# Altium footprint library DNH.PcbLib: 1 footprints
Each footprint in its own frame and in the unit in brackets; x right, y up, seen from the top. Pads: shape width x height; smd on the part's side, far side on the other; paste and mask are expansions set on the pad; w line width, h text height; cw(c..) or ccw(c..) is an arc to the next point about the centre after c.
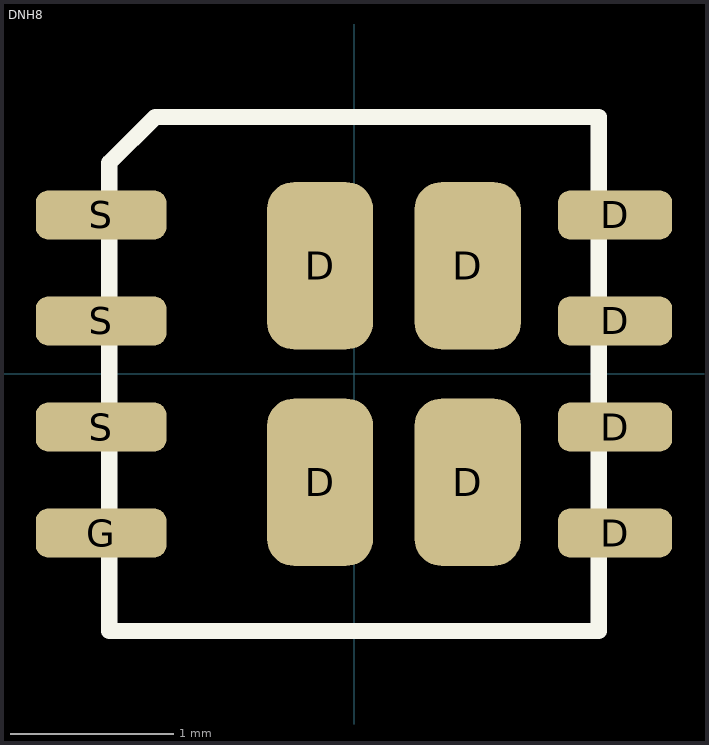
[diagram p0: the footprint, top view; thin cyan lines are the x and y axes]

## DNH8 [mm]
pads (12):
  rrect50% 0.65x1.025 smd: D(-0.208,-0.663) D(-0.208,0.663) D(0.697,-0.663) D(0.697,0.663)
  rrect50% 0.7x0.3 smd: D(1.6,-0.975) D(1.6,-0.325) D(1.6,0.325) D(1.6,0.975)
  rrect50% 0.8x0.3 smd: G(-1.55,-0.975) S(-1.55,-0.325) S(-1.55,0.325) S(-1.55,0.975)
Top Overlay:
  lines w0.1: -1.5,-1.575 -1.5,1.294 -1.219,1.575 1.5,1.575 1.5,-1.575 -1.5,-1.575
3D body "User Library-8-VSONP3x3.STEP": height 0.9, standoff 0, extent -1.885,-1.9 1.885,1.9